# EAGLE library part G6K-2F-RF-VDC5 (library Relay)
RELAY RF DPDT 1A 5V Manufacturer's datasheet <https://omronfs.omron.com/en_US/ecb/products/pdf/en-g6k_2f_rf_v.pdf>
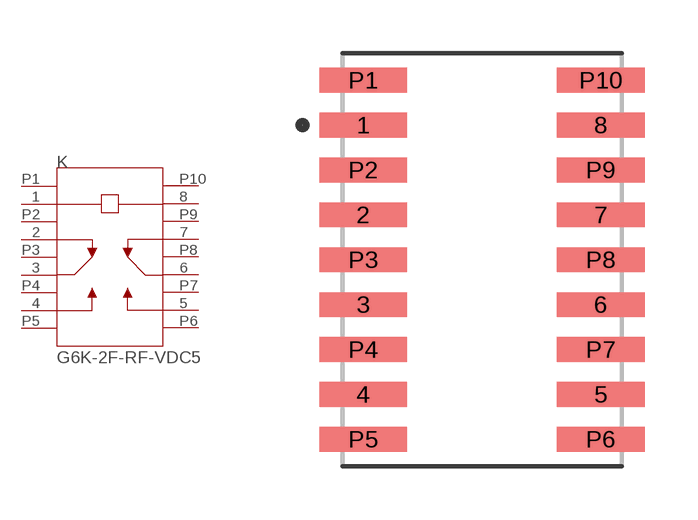
[diagram p6: symbol with the pads of G6K-2F-RF-VDC5; footprint G6K-2F-RF-VDC5]

Designator prefix K

## G6K-2F-RF-VDC5 (CREATED_BY: PCBLayout.com; DIGIKEY_PARTNO: Z6604-ND; MANUFACTURER: Omron Electronics Inc-EMC Div; MPN: G6K-2F-RF-VDC5)  [G6K-2F-RF-VDC5]
1  1  pas
2  2  pas
3  3  pas
4  4  pas
5  5  pas
6  6  pas
7  7  pas
8  8  pas
P1  P1  pas
P2  P2  pas
P3  P3  pas
P4  P4  pas
P5  P5  pas
P6  P6  pas
P7  P7  pas
P8  P8  pas
P9  P9  pas
P10  P10  pas

## Footprint G6K-2F-RF-VDC5 (pad centres in mm)
smd 2.48 x 0.7: 1 -3.36,3.81; 2 -3.36,1.27; 3 -3.36,-1.27; 4 -3.36,-3.81; 5 3.36,-3.81; 6 3.36,-1.27; 7 3.36,1.27; 8 3.36,3.81; P1 -3.36,5.08; P2 -3.36,2.54; P3 -3.36,0; P4 -3.36,-2.54; P5 -3.36,-5.08; P6 3.36,-5.08; P7 3.36,-2.54; P8 3.36,0; P9 3.36,2.54; P10 3.36,5.08